# Altium integrated library L78L12ACD13TR.IntLib: 1 symbol
Pins are listed as number, name and electrical type; pins without a type are passive.

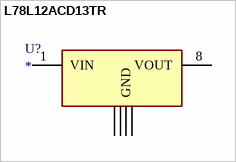
[diagram p0: symbol L78L12ACD13TR]

## L78L12ACD13TR
designator U?
datasheet: https://www.mouser.es/datasheet/2/389/cd00000446-1795493.pdf; ComponentLink1Description: mouser; ComponentLink1URL: L78L12ACD13TR
footprint SOIC-8
pins: 1 VIN, 3 GND, 3 2, 6 GND, 7 GND, 8 VOUT